# Altium integrated library Passive.IntLib: 1327 symbols (part 5 of 10)
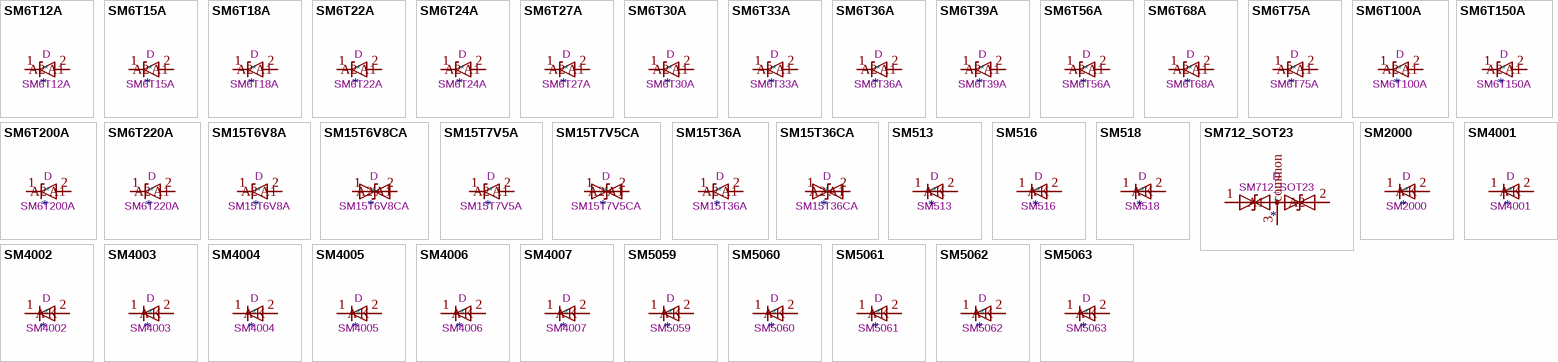
[diagram p45: symbols SM6T12A to SM5063]

## SM4006
designator *  value SM4006  Reference: D
800V 1A General Purpose Rectifier Diode, MELF; Sim.Pins: 1=K 2=A; ki_fp_filters: D*MELF*; Footprint: Diode_SMD:D_MELF; Datasheet: http://cdn-reichelt.de/documents/datenblatt/A400/SMD1N400%23DIO.pdf; Description_: 800V 1A General Purpose Rectifier Diode, MELF; Sim.Device: D; ki_keywords: diode
pins: 1 K, 2 A

## SM4007
designator *  value SM4007  Reference: D
1000V 1A General Purpose Rectifier Diode, MELF; Sim.Pins: 1=K 2=A; ki_fp_filters: D*MELF*; Footprint: Diode_SMD:D_MELF; Datasheet: http://cdn-reichelt.de/documents/datenblatt/A400/SMD1N400%23DIO.pdf; Description_: 1000V 1A General Purpose Rectifier Diode, MELF; Sim.Device: D; ki_keywords: diode
pins: 1 K, 2 A

## SM5059
designator *  value SM5059  Reference: D
Standard Recovery SMD Rectifier Diodes, IFAV = 2A, IFSM = 50/55A (50/60Hz), trr = 1500ns, VRRM = 200V, DO-213AB (MELF); Sim.Pins: 1=K 2=A; ki_keywords: diode; ki_fp_filters: D*MELF*; Footprint: Diode_SMD:D_MELF; Datasheet: https://diotec.com/request/datasheet/sm5059.pdf; Description_: Standard Recovery SMD Rectifier Diodes, IFAV = 2A, IFSM = 50/55A (50/60Hz), trr = 1500ns, VRRM = 200V, DO-213AB (MELF); Sim.Device: D
pins: 1 K, 2 A

## SM5060
designator *  value SM5060  Reference: D
Standard Recovery SMD Rectifier Diodes, IFAV = 2A, IFSM = 50/55A (50/60Hz), trr = 1500ns, VRRM = 400V, DO-213AB (MELF); Sim.Pins: 1=K 2=A; ki_keywords: diode; ki_fp_filters: D*MELF*; Footprint: Diode_SMD:D_MELF; Datasheet: https://diotec.com/request/datasheet/sm5059.pdf; Description_: Standard Recovery SMD Rectifier Diodes, IFAV = 2A, IFSM = 50/55A (50/60Hz), trr = 1500ns, VRRM = 400V, DO-213AB (MELF); Sim.Device: D
pins: 1 K, 2 A

## SM5061
designator *  value SM5061  Reference: D
Standard Recovery SMD Rectifier Diodes, IFAV = 2A, IFSM = 50/55A (50/60Hz), trr = 1500ns, VRRM = 600V, DO-213AB (MELF); Sim.Pins: 1=K 2=A; ki_keywords: diode; ki_fp_filters: D*MELF*; Footprint: Diode_SMD:D_MELF; Datasheet: https://diotec.com/request/datasheet/sm5059.pdf; Description_: Standard Recovery SMD Rectifier Diodes, IFAV = 2A, IFSM = 50/55A (50/60Hz), trr = 1500ns, VRRM = 600V, DO-213AB (MELF); Sim.Device: D
pins: 1 K, 2 A

## SM5062
designator *  value SM5062  Reference: D
Standard Recovery SMD Rectifier Diodes, IFAV = 2A, IFSM = 50/55A (50/60Hz), trr = 1500ns, VRRM = 800V, DO-213AB (MELF); Sim.Pins: 1=K 2=A; ki_keywords: diode; ki_fp_filters: D*MELF*; Footprint: Diode_SMD:D_MELF; Datasheet: https://diotec.com/request/datasheet/sm5059.pdf; Description_: Standard Recovery SMD Rectifier Diodes, IFAV = 2A, IFSM = 50/55A (50/60Hz), trr = 1500ns, VRRM = 800V, DO-213AB (MELF); Sim.Device: D
pins: 1 K, 2 A

## SM5063
designator *  value SM5063  Reference: D
Standard Recovery SMD Rectifier Diodes, IFAV = 2A, IFSM = 50/55A (50/60Hz), trr = 1500ns, VRRM = 1000V, DO-213AB (MELF); Sim.Pins: 1=K 2=A; ki_keywords: diode; ki_fp_filters: D*MELF*; Footprint: Diode_SMD:D_MELF; Datasheet: https://diotec.com/request/datasheet/sm5059.pdf; Description_: Standard Recovery SMD Rectifier Diodes, IFAV = 2A, IFSM = 50/55A (50/60Hz), trr = 1500ns, VRRM = 1000V, DO-213AB (MELF); Sim.Device: D
pins: 1 K, 2 A

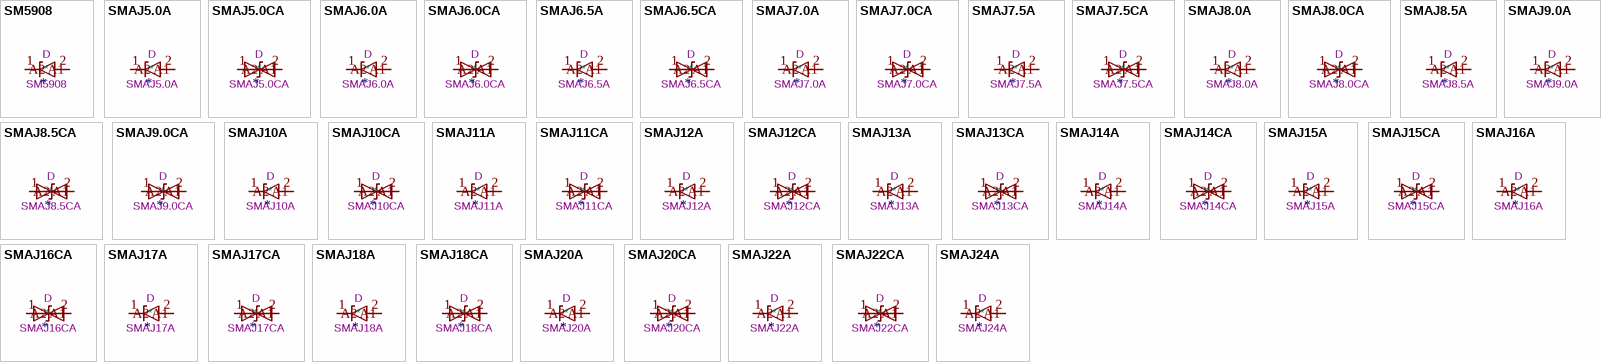
[diagram p15: symbols SM5908 to SMAJ24A]

## SM5908
designator *  value SM5908  Reference: D
1500W (10/1000 μs) Unidirectional TVS Diode, VRM = 5V (IRM = 300 μA at 25°C), VBR = 6V, 'MDC' marking, SMC; ki_keywords: ESD protection transient voltage-suppressor transil thyrector transorb; ki_fp_filters: *D*SMC*; Footprint: Diode_SMD:ST_D_SMC; Datasheet: https://www.st.com/resource/en/datasheet/1n5908.pdf; Description_: 1500W (10/1000 μs) Unidirectional TVS Diode, VRM = 5V (IRM = 300 μA at 25°C), VBR = 6V, 'MDC' marking, SMC
pins: 1 A1, 2 A2

## SMAJ5.0A
designator *  value SMAJ5.0A  Reference: D
400W unidirectional Transient Voltage Suppressor, 5.0Vr, SMA(DO-214AC); ki_keywords: unidirectional diode TVS voltage suppressor; ki_fp_filters: D*SMA*; Footprint: Diode_SMD:D_SMA; Datasheet: https://www.littelfuse.com/media?resourcetype=datasheets&itemid=75e32973-b177-4ee3-a0ff-cedaf1abdb93&filename=smaj-datasheet; Description_: 400W unidirectional Transient Voltage Suppressor, 5.0Vr, SMA(DO-214AC)
pins: 1 A1, 2 A2

## SMAJ5.0CA
designator *  value SMAJ5.0CA  Reference: D
400W bidirectional Transient Voltage Suppressor, 5.0Vr, SMA(DO-214AC); ki_keywords: bidirectional diode TVS voltage suppressor; ki_fp_filters: D*SMA*; Footprint: Diode_SMD:D_SMA; Datasheet: https://www.littelfuse.com/media?resourcetype=datasheets&itemid=75e32973-b177-4ee3-a0ff-cedaf1abdb93&filename=smaj-datasheet; Description_: 400W bidirectional Transient Voltage Suppressor, 5.0Vr, SMA(DO-214AC)
pins: 1 A1, 2 A2

## SMAJ6.0A
designator *  value SMAJ6.0A  Reference: D
400W unidirectional Transient Voltage Suppressor, 6.0Vr, SMA(DO-214AC); ki_keywords: unidirectional diode TVS voltage suppressor; ki_fp_filters: D*SMA*; Footprint: Diode_SMD:D_SMA; Datasheet: https://www.littelfuse.com/media?resourcetype=datasheets&itemid=75e32973-b177-4ee3-a0ff-cedaf1abdb93&filename=smaj-datasheet; Description_: 400W unidirectional Transient Voltage Suppressor, 6.0Vr, SMA(DO-214AC)
pins: 1 A1, 2 A2

## SMAJ6.0CA
designator *  value SMAJ6.0CA  Reference: D
400W bidirectional Transient Voltage Suppressor, 6.0Vr, SMA(DO-214AC); ki_keywords: bidirectional diode TVS voltage suppressor; ki_fp_filters: D*SMA*; Footprint: Diode_SMD:D_SMA; Datasheet: https://www.littelfuse.com/media?resourcetype=datasheets&itemid=75e32973-b177-4ee3-a0ff-cedaf1abdb93&filename=smaj-datasheet; Description_: 400W bidirectional Transient Voltage Suppressor, 6.0Vr, SMA(DO-214AC)
pins: 1 A1, 2 A2

## SMAJ6.5A
designator *  value SMAJ6.5A  Reference: D
400W unidirectional Transient Voltage Suppressor, 6.5Vr, SMA(DO-214AC); ki_keywords: unidirectional diode TVS voltage suppressor; ki_fp_filters: D*SMA*; Footprint: Diode_SMD:D_SMA; Datasheet: https://www.littelfuse.com/media?resourcetype=datasheets&itemid=75e32973-b177-4ee3-a0ff-cedaf1abdb93&filename=smaj-datasheet; Description_: 400W unidirectional Transient Voltage Suppressor, 6.5Vr, SMA(DO-214AC)
pins: 1 A1, 2 A2

## SMAJ6.5CA
designator *  value SMAJ6.5CA  Reference: D
400W bidirectional Transient Voltage Suppressor, 6.5Vr, SMA(DO-214AC); ki_keywords: bidirectional diode TVS voltage suppressor; ki_fp_filters: D*SMA*; Footprint: Diode_SMD:D_SMA; Datasheet: https://www.littelfuse.com/media?resourcetype=datasheets&itemid=75e32973-b177-4ee3-a0ff-cedaf1abdb93&filename=smaj-datasheet; Description_: 400W bidirectional Transient Voltage Suppressor, 6.5Vr, SMA(DO-214AC)
pins: 1 A1, 2 A2

## SMAJ7.0A
designator *  value SMAJ7.0A  Reference: D
400W unidirectional Transient Voltage Suppressor, 7.0Vr, SMA(DO-214AC); ki_keywords: unidirectional diode TVS voltage suppressor; ki_fp_filters: D*SMA*; Footprint: Diode_SMD:D_SMA; Datasheet: https://www.littelfuse.com/media?resourcetype=datasheets&itemid=75e32973-b177-4ee3-a0ff-cedaf1abdb93&filename=smaj-datasheet; Description_: 400W unidirectional Transient Voltage Suppressor, 7.0Vr, SMA(DO-214AC)
pins: 1 A1, 2 A2

## SMAJ7.0CA
designator *  value SMAJ7.0CA  Reference: D
400W bidirectional Transient Voltage Suppressor, 7.0Vr, SMA(DO-214AC); ki_keywords: bidirectional diode TVS voltage suppressor; ki_fp_filters: D*SMA*; Footprint: Diode_SMD:D_SMA; Datasheet: https://www.littelfuse.com/media?resourcetype=datasheets&itemid=75e32973-b177-4ee3-a0ff-cedaf1abdb93&filename=smaj-datasheet; Description_: 400W bidirectional Transient Voltage Suppressor, 7.0Vr, SMA(DO-214AC)
pins: 1 A1, 2 A2

## SMAJ7.5A
designator *  value SMAJ7.5A  Reference: D
400W unidirectional Transient Voltage Suppressor, 7.5Vr, SMA(DO-214AC); ki_keywords: unidirectional diode TVS voltage suppressor; ki_fp_filters: D*SMA*; Footprint: Diode_SMD:D_SMA; Datasheet: https://www.littelfuse.com/media?resourcetype=datasheets&itemid=75e32973-b177-4ee3-a0ff-cedaf1abdb93&filename=smaj-datasheet; Description_: 400W unidirectional Transient Voltage Suppressor, 7.5Vr, SMA(DO-214AC)
pins: 1 A1, 2 A2

## SMAJ7.5CA
designator *  value SMAJ7.5CA  Reference: D
400W bidirectional Transient Voltage Suppressor, 7.5Vr, SMA(DO-214AC); ki_keywords: bidirectional diode TVS voltage suppressor; ki_fp_filters: D*SMA*; Footprint: Diode_SMD:D_SMA; Datasheet: https://www.littelfuse.com/media?resourcetype=datasheets&itemid=75e32973-b177-4ee3-a0ff-cedaf1abdb93&filename=smaj-datasheet; Description_: 400W bidirectional Transient Voltage Suppressor, 7.5Vr, SMA(DO-214AC)
pins: 1 A1, 2 A2

## SMAJ8.0A
designator *  value SMAJ8.0A  Reference: D
400W unidirectional Transient Voltage Suppressor, 8.0Vr, SMA(DO-214AC); ki_keywords: unidirectional diode TVS voltage suppressor; ki_fp_filters: D*SMA*; Footprint: Diode_SMD:D_SMA; Datasheet: https://www.littelfuse.com/media?resourcetype=datasheets&itemid=75e32973-b177-4ee3-a0ff-cedaf1abdb93&filename=smaj-datasheet; Description_: 400W unidirectional Transient Voltage Suppressor, 8.0Vr, SMA(DO-214AC)
pins: 1 A1, 2 A2

## SMAJ8.0CA
designator *  value SMAJ8.0CA  Reference: D
400W bidirectional Transient Voltage Suppressor, 8.0Vr, SMA(DO-214AC); ki_keywords: bidirectional diode TVS voltage suppressor; ki_fp_filters: D*SMA*; Footprint: Diode_SMD:D_SMA; Datasheet: https://www.littelfuse.com/media?resourcetype=datasheets&itemid=75e32973-b177-4ee3-a0ff-cedaf1abdb93&filename=smaj-datasheet; Description_: 400W bidirectional Transient Voltage Suppressor, 8.0Vr, SMA(DO-214AC)
pins: 1 A1, 2 A2

## SMAJ8.5A
designator *  value SMAJ8.5A  Reference: D
400W unidirectional Transient Voltage Suppressor, 8.5Vr, SMA(DO-214AC); ki_keywords: unidirectional diode TVS voltage suppressor; ki_fp_filters: D*SMA*; Footprint: Diode_SMD:D_SMA; Datasheet: https://www.littelfuse.com/media?resourcetype=datasheets&itemid=75e32973-b177-4ee3-a0ff-cedaf1abdb93&filename=smaj-datasheet; Description_: 400W unidirectional Transient Voltage Suppressor, 8.5Vr, SMA(DO-214AC)
pins: 1 A1, 2 A2

## SMAJ8.5CA
designator *  value SMAJ8.5CA  Reference: D
400W bidirectional Transient Voltage Suppressor, 8.5Vr, SMA(DO-214AC); ki_keywords: bidirectional diode TVS voltage suppressor; ki_fp_filters: D*SMA*; Footprint: Diode_SMD:D_SMA; Datasheet: https://www.littelfuse.com/media?resourcetype=datasheets&itemid=75e32973-b177-4ee3-a0ff-cedaf1abdb93&filename=smaj-datasheet; Description_: 400W bidirectional Transient Voltage Suppressor, 8.5Vr, SMA(DO-214AC)
pins: 1 A1, 2 A2

## SMAJ9.0A
designator *  value SMAJ9.0A  Reference: D
400W unidirectional Transient Voltage Suppressor, 9.0Vr, SMA(DO-214AC); ki_keywords: unidirectional diode TVS voltage suppressor; ki_fp_filters: D*SMA*; Footprint: Diode_SMD:D_SMA; Datasheet: https://www.littelfuse.com/media?resourcetype=datasheets&itemid=75e32973-b177-4ee3-a0ff-cedaf1abdb93&filename=smaj-datasheet; Description_: 400W unidirectional Transient Voltage Suppressor, 9.0Vr, SMA(DO-214AC)
pins: 1 A1, 2 A2

## SMAJ9.0CA
designator *  value SMAJ9.0CA  Reference: D
400W bidirectional Transient Voltage Suppressor, 9.0Vr, SMA(DO-214AC); ki_keywords: bidirectional diode TVS voltage suppressor; ki_fp_filters: D*SMA*; Footprint: Diode_SMD:D_SMA; Datasheet: https://www.littelfuse.com/media?resourcetype=datasheets&itemid=75e32973-b177-4ee3-a0ff-cedaf1abdb93&filename=smaj-datasheet; Description_: 400W bidirectional Transient Voltage Suppressor, 9.0Vr, SMA(DO-214AC)
pins: 1 A1, 2 A2

## SMAJ10A
designator *  value SMAJ10A  Reference: D
400W unidirectional Transient Voltage Suppressor, 10.0Vr, SMA(DO-214AC); ki_keywords: unidirectional diode TVS voltage suppressor; ki_fp_filters: D*SMA*; Footprint: Diode_SMD:D_SMA; Datasheet: https://www.littelfuse.com/media?resourcetype=datasheets&itemid=75e32973-b177-4ee3-a0ff-cedaf1abdb93&filename=smaj-datasheet; Description_: 400W unidirectional Transient Voltage Suppressor, 10.0Vr, SMA(DO-214AC)
pins: 1 A1, 2 A2

## SMAJ10CA
designator *  value SMAJ10CA  Reference: D
400W bidirectional Transient Voltage Suppressor, 10.0Vr, SMA(DO-214AC); ki_keywords: bidirectional diode TVS voltage suppressor; ki_fp_filters: D*SMA*; Footprint: Diode_SMD:D_SMA; Datasheet: https://www.littelfuse.com/media?resourcetype=datasheets&itemid=75e32973-b177-4ee3-a0ff-cedaf1abdb93&filename=smaj-datasheet; Description_: 400W bidirectional Transient Voltage Suppressor, 10.0Vr, SMA(DO-214AC)
pins: 1 A1, 2 A2

## SMAJ11A
designator *  value SMAJ11A  Reference: D
400W unidirectional Transient Voltage Suppressor, 11.0Vr, SMA(DO-214AC); ki_keywords: unidirectional diode TVS voltage suppressor; ki_fp_filters: D*SMA*; Footprint: Diode_SMD:D_SMA; Datasheet: https://www.littelfuse.com/media?resourcetype=datasheets&itemid=75e32973-b177-4ee3-a0ff-cedaf1abdb93&filename=smaj-datasheet; Description_: 400W unidirectional Transient Voltage Suppressor, 11.0Vr, SMA(DO-214AC)
pins: 1 A1, 2 A2

## SMAJ11CA
designator *  value SMAJ11CA  Reference: D
400W bidirectional Transient Voltage Suppressor, 11.0Vr, SMA(DO-214AC); ki_keywords: bidirectional diode TVS voltage suppressor; ki_fp_filters: D*SMA*; Footprint: Diode_SMD:D_SMA; Datasheet: https://www.littelfuse.com/media?resourcetype=datasheets&itemid=75e32973-b177-4ee3-a0ff-cedaf1abdb93&filename=smaj-datasheet; Description_: 400W bidirectional Transient Voltage Suppressor, 11.0Vr, SMA(DO-214AC)
pins: 1 A1, 2 A2

## SMAJ12A
designator *  value SMAJ12A  Reference: D
400W unidirectional Transient Voltage Suppressor, 12.0Vr, SMA(DO-214AC); ki_keywords: unidirectional diode TVS voltage suppressor; ki_fp_filters: D*SMA*; Footprint: Diode_SMD:D_SMA; Datasheet: https://www.littelfuse.com/media?resourcetype=datasheets&itemid=75e32973-b177-4ee3-a0ff-cedaf1abdb93&filename=smaj-datasheet; Description_: 400W unidirectional Transient Voltage Suppressor, 12.0Vr, SMA(DO-214AC)
pins: 1 A1, 2 A2

## SMAJ12CA
designator *  value SMAJ12CA  Reference: D
400W bidirectional Transient Voltage Suppressor, 12.0Vr, SMA(DO-214AC); ki_keywords: bidirectional diode TVS voltage suppressor; ki_fp_filters: D*SMA*; Footprint: Diode_SMD:D_SMA; Datasheet: https://www.littelfuse.com/media?resourcetype=datasheets&itemid=75e32973-b177-4ee3-a0ff-cedaf1abdb93&filename=smaj-datasheet; Description_: 400W bidirectional Transient Voltage Suppressor, 12.0Vr, SMA(DO-214AC)
pins: 1 A1, 2 A2

## SMAJ13A
designator *  value SMAJ13A  Reference: D
400W unidirectional Transient Voltage Suppressor, 13.0Vr, SMA(DO-214AC); ki_keywords: unidirectional diode TVS voltage suppressor; ki_fp_filters: D*SMA*; Footprint: Diode_SMD:D_SMA; Datasheet: https://www.littelfuse.com/media?resourcetype=datasheets&itemid=75e32973-b177-4ee3-a0ff-cedaf1abdb93&filename=smaj-datasheet; Description_: 400W unidirectional Transient Voltage Suppressor, 13.0Vr, SMA(DO-214AC)
pins: 1 A1, 2 A2

## SMAJ13CA
designator *  value SMAJ13CA  Reference: D
400W bidirectional Transient Voltage Suppressor, 13.0Vr, SMA(DO-214AC); ki_keywords: bidirectional diode TVS voltage suppressor; ki_fp_filters: D*SMA*; Footprint: Diode_SMD:D_SMA; Datasheet: https://www.littelfuse.com/media?resourcetype=datasheets&itemid=75e32973-b177-4ee3-a0ff-cedaf1abdb93&filename=smaj-datasheet; Description_: 400W bidirectional Transient Voltage Suppressor, 13.0Vr, SMA(DO-214AC)
pins: 1 A1, 2 A2

## SMAJ14A
designator *  value SMAJ14A  Reference: D
400W unidirectional Transient Voltage Suppressor, 14.0Vr, SMA(DO-214AC); ki_keywords: unidirectional diode TVS voltage suppressor; ki_fp_filters: D*SMA*; Footprint: Diode_SMD:D_SMA; Datasheet: https://www.littelfuse.com/media?resourcetype=datasheets&itemid=75e32973-b177-4ee3-a0ff-cedaf1abdb93&filename=smaj-datasheet; Description_: 400W unidirectional Transient Voltage Suppressor, 14.0Vr, SMA(DO-214AC)
pins: 1 A1, 2 A2

## SMAJ14CA
designator *  value SMAJ14CA  Reference: D
400W bidirectional Transient Voltage Suppressor, 14.0Vr, SMA(DO-214AC); ki_keywords: bidirectional diode TVS voltage suppressor; ki_fp_filters: D*SMA*; Footprint: Diode_SMD:D_SMA; Datasheet: https://www.littelfuse.com/media?resourcetype=datasheets&itemid=75e32973-b177-4ee3-a0ff-cedaf1abdb93&filename=smaj-datasheet; Description_: 400W bidirectional Transient Voltage Suppressor, 14.0Vr, SMA(DO-214AC)
pins: 1 A1, 2 A2

## SMAJ15A
designator *  value SMAJ15A  Reference: D
400W unidirectional Transient Voltage Suppressor, 15.0Vr, SMA(DO-214AC); ki_keywords: unidirectional diode TVS voltage suppressor; ki_fp_filters: D*SMA*; Footprint: Diode_SMD:D_SMA; Datasheet: https://www.littelfuse.com/media?resourcetype=datasheets&itemid=75e32973-b177-4ee3-a0ff-cedaf1abdb93&filename=smaj-datasheet; Description_: 400W unidirectional Transient Voltage Suppressor, 15.0Vr, SMA(DO-214AC)
pins: 1 A1, 2 A2

## SMAJ15CA
designator *  value SMAJ15CA  Reference: D
400W bidirectional Transient Voltage Suppressor, 15.0Vr, SMA(DO-214AC); ki_keywords: bidirectional diode TVS voltage suppressor; ki_fp_filters: D*SMA*; Footprint: Diode_SMD:D_SMA; Datasheet: https://www.littelfuse.com/media?resourcetype=datasheets&itemid=75e32973-b177-4ee3-a0ff-cedaf1abdb93&filename=smaj-datasheet; Description_: 400W bidirectional Transient Voltage Suppressor, 15.0Vr, SMA(DO-214AC)
pins: 1 A1, 2 A2

## SMAJ16A
designator *  value SMAJ16A  Reference: D
400W unidirectional Transient Voltage Suppressor, 16.0Vr, SMA(DO-214AC); ki_keywords: unidirectional diode TVS voltage suppressor; ki_fp_filters: D*SMA*; Footprint: Diode_SMD:D_SMA; Datasheet: https://www.littelfuse.com/media?resourcetype=datasheets&itemid=75e32973-b177-4ee3-a0ff-cedaf1abdb93&filename=smaj-datasheet; Description_: 400W unidirectional Transient Voltage Suppressor, 16.0Vr, SMA(DO-214AC)
pins: 1 A1, 2 A2

## SMAJ16CA
designator *  value SMAJ16CA  Reference: D
400W bidirectional Transient Voltage Suppressor, 16.0Vr, SMA(DO-214AC); ki_keywords: bidirectional diode TVS voltage suppressor; ki_fp_filters: D*SMA*; Footprint: Diode_SMD:D_SMA; Datasheet: https://www.littelfuse.com/media?resourcetype=datasheets&itemid=75e32973-b177-4ee3-a0ff-cedaf1abdb93&filename=smaj-datasheet; Description_: 400W bidirectional Transient Voltage Suppressor, 16.0Vr, SMA(DO-214AC)
pins: 1 A1, 2 A2

## SMAJ17A
designator *  value SMAJ17A  Reference: D
400W unidirectional Transient Voltage Suppressor, 17.0Vr, SMA(DO-214AC); ki_keywords: unidirectional diode TVS voltage suppressor; ki_fp_filters: D*SMA*; Footprint: Diode_SMD:D_SMA; Datasheet: https://www.littelfuse.com/media?resourcetype=datasheets&itemid=75e32973-b177-4ee3-a0ff-cedaf1abdb93&filename=smaj-datasheet; Description_: 400W unidirectional Transient Voltage Suppressor, 17.0Vr, SMA(DO-214AC)
pins: 1 A1, 2 A2

## SMAJ17CA
designator *  value SMAJ17CA  Reference: D
400W bidirectional Transient Voltage Suppressor, 17.0Vr, SMA(DO-214AC); ki_keywords: bidirectional diode TVS voltage suppressor; ki_fp_filters: D*SMA*; Footprint: Diode_SMD:D_SMA; Datasheet: https://www.littelfuse.com/media?resourcetype=datasheets&itemid=75e32973-b177-4ee3-a0ff-cedaf1abdb93&filename=smaj-datasheet; Description_: 400W bidirectional Transient Voltage Suppressor, 17.0Vr, SMA(DO-214AC)
pins: 1 A1, 2 A2

## SMAJ18A
designator *  value SMAJ18A  Reference: D
400W unidirectional Transient Voltage Suppressor, 18.0Vr, SMA(DO-214AC); ki_keywords: unidirectional diode TVS voltage suppressor; ki_fp_filters: D*SMA*; Footprint: Diode_SMD:D_SMA; Datasheet: https://www.littelfuse.com/media?resourcetype=datasheets&itemid=75e32973-b177-4ee3-a0ff-cedaf1abdb93&filename=smaj-datasheet; Description_: 400W unidirectional Transient Voltage Suppressor, 18.0Vr, SMA(DO-214AC)
pins: 1 A1, 2 A2

## SMAJ18CA
designator *  value SMAJ18CA  Reference: D
400W bidirectional Transient Voltage Suppressor, 18.0Vr, SMA(DO-214AC); ki_keywords: bidirectional diode TVS voltage suppressor; ki_fp_filters: D*SMA*; Footprint: Diode_SMD:D_SMA; Datasheet: https://www.littelfuse.com/media?resourcetype=datasheets&itemid=75e32973-b177-4ee3-a0ff-cedaf1abdb93&filename=smaj-datasheet; Description_: 400W bidirectional Transient Voltage Suppressor, 18.0Vr, SMA(DO-214AC)
pins: 1 A1, 2 A2

## SMAJ20A
designator *  value SMAJ20A  Reference: D
400W unidirectional Transient Voltage Suppressor, 20.0Vr, SMA(DO-214AC); ki_keywords: unidirectional diode TVS voltage suppressor; ki_fp_filters: D*SMA*; Footprint: Diode_SMD:D_SMA; Datasheet: https://www.littelfuse.com/media?resourcetype=datasheets&itemid=75e32973-b177-4ee3-a0ff-cedaf1abdb93&filename=smaj-datasheet; Description_: 400W unidirectional Transient Voltage Suppressor, 20.0Vr, SMA(DO-214AC)
pins: 1 A1, 2 A2

## SMAJ20CA
designator *  value SMAJ20CA  Reference: D
400W bidirectional Transient Voltage Suppressor, 20.0Vr, SMA(DO-214AC); ki_keywords: bidirectional diode TVS voltage suppressor; ki_fp_filters: D*SMA*; Footprint: Diode_SMD:D_SMA; Datasheet: https://www.littelfuse.com/media?resourcetype=datasheets&itemid=75e32973-b177-4ee3-a0ff-cedaf1abdb93&filename=smaj-datasheet; Description_: 400W bidirectional Transient Voltage Suppressor, 20.0Vr, SMA(DO-214AC)
pins: 1 A1, 2 A2

## SMAJ22A
designator *  value SMAJ22A  Reference: D
400W unidirectional Transient Voltage Suppressor, 22.0Vr, SMA(DO-214AC); ki_keywords: unidirectional diode TVS voltage suppressor; ki_fp_filters: D*SMA*; Footprint: Diode_SMD:D_SMA; Datasheet: https://www.littelfuse.com/media?resourcetype=datasheets&itemid=75e32973-b177-4ee3-a0ff-cedaf1abdb93&filename=smaj-datasheet; Description_: 400W unidirectional Transient Voltage Suppressor, 22.0Vr, SMA(DO-214AC)
pins: 1 A1, 2 A2

## SMAJ22CA
designator *  value SMAJ22CA  Reference: D
400W bidirectional Transient Voltage Suppressor, 22.0Vr, SMA(DO-214AC); ki_keywords: bidirectional diode TVS voltage suppressor; ki_fp_filters: D*SMA*; Footprint: Diode_SMD:D_SMA; Datasheet: https://www.littelfuse.com/media?resourcetype=datasheets&itemid=75e32973-b177-4ee3-a0ff-cedaf1abdb93&filename=smaj-datasheet; Description_: 400W bidirectional Transient Voltage Suppressor, 22.0Vr, SMA(DO-214AC)
pins: 1 A1, 2 A2

## SMAJ24A
designator *  value SMAJ24A  Reference: D
400W unidirectional Transient Voltage Suppressor, 24.0Vr, SMA(DO-214AC); ki_keywords: unidirectional diode TVS voltage suppressor; ki_fp_filters: D*SMA*; Footprint: Diode_SMD:D_SMA; Datasheet: https://www.littelfuse.com/media?resourcetype=datasheets&itemid=75e32973-b177-4ee3-a0ff-cedaf1abdb93&filename=smaj-datasheet; Description_: 400W unidirectional Transient Voltage Suppressor, 24.0Vr, SMA(DO-214AC)
pins: 1 A1, 2 A2

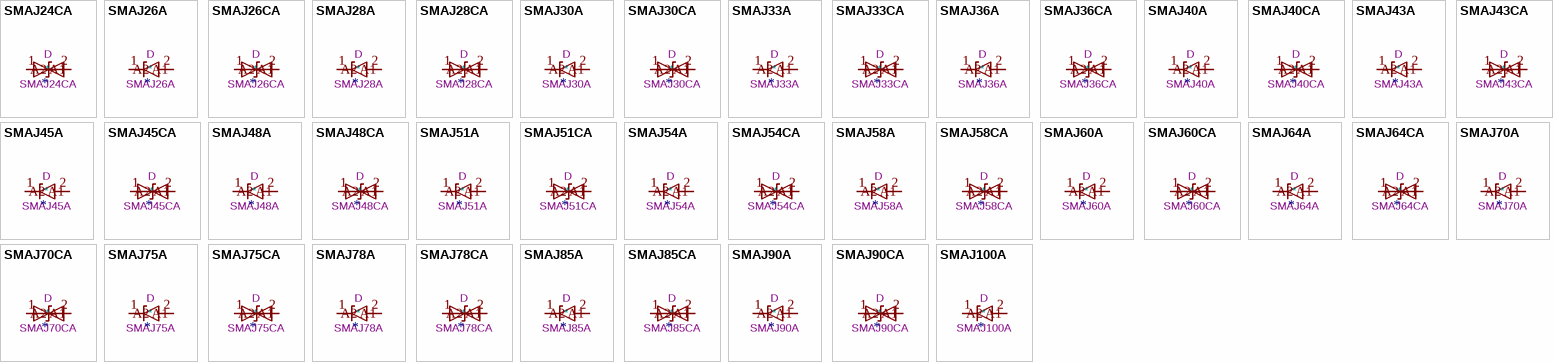
[diagram p16: symbols SMAJ24CA to SMAJ100A]

## SMAJ24CA
designator *  value SMAJ24CA  Reference: D
400W bidirectional Transient Voltage Suppressor, 24.0Vr, SMA(DO-214AC); ki_keywords: bidirectional diode TVS voltage suppressor; ki_fp_filters: D*SMA*; Footprint: Diode_SMD:D_SMA; Datasheet: https://www.littelfuse.com/media?resourcetype=datasheets&itemid=75e32973-b177-4ee3-a0ff-cedaf1abdb93&filename=smaj-datasheet; Description_: 400W bidirectional Transient Voltage Suppressor, 24.0Vr, SMA(DO-214AC)
pins: 1 A1, 2 A2

## SMAJ26A
designator *  value SMAJ26A  Reference: D
400W unidirectional Transient Voltage Suppressor, 26.0Vr, SMA(DO-214AC); ki_keywords: unidirectional diode TVS voltage suppressor; ki_fp_filters: D*SMA*; Footprint: Diode_SMD:D_SMA; Datasheet: https://www.littelfuse.com/media?resourcetype=datasheets&itemid=75e32973-b177-4ee3-a0ff-cedaf1abdb93&filename=smaj-datasheet; Description_: 400W unidirectional Transient Voltage Suppressor, 26.0Vr, SMA(DO-214AC)
pins: 1 A1, 2 A2

## SMAJ26CA
designator *  value SMAJ26CA  Reference: D
400W bidirectional Transient Voltage Suppressor, 26.0Vr, SMA(DO-214AC); ki_keywords: bidirectional diode TVS voltage suppressor; ki_fp_filters: D*SMA*; Footprint: Diode_SMD:D_SMA; Datasheet: https://www.littelfuse.com/media?resourcetype=datasheets&itemid=75e32973-b177-4ee3-a0ff-cedaf1abdb93&filename=smaj-datasheet; Description_: 400W bidirectional Transient Voltage Suppressor, 26.0Vr, SMA(DO-214AC)
pins: 1 A1, 2 A2

## SMAJ28A
designator *  value SMAJ28A  Reference: D
400W unidirectional Transient Voltage Suppressor, 28.0Vr, SMA(DO-214AC); ki_keywords: unidirectional diode TVS voltage suppressor; ki_fp_filters: D*SMA*; Footprint: Diode_SMD:D_SMA; Datasheet: https://www.littelfuse.com/media?resourcetype=datasheets&itemid=75e32973-b177-4ee3-a0ff-cedaf1abdb93&filename=smaj-datasheet; Description_: 400W unidirectional Transient Voltage Suppressor, 28.0Vr, SMA(DO-214AC)
pins: 1 A1, 2 A2

## SMAJ28CA
designator *  value SMAJ28CA  Reference: D
400W bidirectional Transient Voltage Suppressor, 28.0Vr, SMA(DO-214AC); ki_keywords: bidirectional diode TVS voltage suppressor; ki_fp_filters: D*SMA*; Footprint: Diode_SMD:D_SMA; Datasheet: https://www.littelfuse.com/media?resourcetype=datasheets&itemid=75e32973-b177-4ee3-a0ff-cedaf1abdb93&filename=smaj-datasheet; Description_: 400W bidirectional Transient Voltage Suppressor, 28.0Vr, SMA(DO-214AC)
pins: 1 A1, 2 A2

## SMAJ30A
designator *  value SMAJ30A  Reference: D
400W unidirectional Transient Voltage Suppressor, 30.0Vr, SMA(DO-214AC); ki_keywords: unidirectional diode TVS voltage suppressor; ki_fp_filters: D*SMA*; Footprint: Diode_SMD:D_SMA; Datasheet: https://www.littelfuse.com/media?resourcetype=datasheets&itemid=75e32973-b177-4ee3-a0ff-cedaf1abdb93&filename=smaj-datasheet; Description_: 400W unidirectional Transient Voltage Suppressor, 30.0Vr, SMA(DO-214AC)
pins: 1 A1, 2 A2

## SMAJ30CA
designator *  value SMAJ30CA  Reference: D
400W bidirectional Transient Voltage Suppressor, 30.0Vr, SMA(DO-214AC); ki_keywords: bidirectional diode TVS voltage suppressor; ki_fp_filters: D*SMA*; Footprint: Diode_SMD:D_SMA; Datasheet: https://www.littelfuse.com/media?resourcetype=datasheets&itemid=75e32973-b177-4ee3-a0ff-cedaf1abdb93&filename=smaj-datasheet; Description_: 400W bidirectional Transient Voltage Suppressor, 30.0Vr, SMA(DO-214AC)
pins: 1 A1, 2 A2

## SMAJ33A
designator *  value SMAJ33A  Reference: D
400W unidirectional Transient Voltage Suppressor, 33.0Vr, SMA(DO-214AC); ki_keywords: unidirectional diode TVS voltage suppressor; ki_fp_filters: D*SMA*; Footprint: Diode_SMD:D_SMA; Datasheet: https://www.littelfuse.com/media?resourcetype=datasheets&itemid=75e32973-b177-4ee3-a0ff-cedaf1abdb93&filename=smaj-datasheet; Description_: 400W unidirectional Transient Voltage Suppressor, 33.0Vr, SMA(DO-214AC)
pins: 1 A1, 2 A2

## SMAJ33CA
designator *  value SMAJ33CA  Reference: D
400W bidirectional Transient Voltage Suppressor, 33.0Vr, SMA(DO-214AC); ki_keywords: bidirectional diode TVS voltage suppressor; ki_fp_filters: D*SMA*; Footprint: Diode_SMD:D_SMA; Datasheet: https://www.littelfuse.com/media?resourcetype=datasheets&itemid=75e32973-b177-4ee3-a0ff-cedaf1abdb93&filename=smaj-datasheet; Description_: 400W bidirectional Transient Voltage Suppressor, 33.0Vr, SMA(DO-214AC)
pins: 1 A1, 2 A2

## SMAJ36A
designator *  value SMAJ36A  Reference: D
400W unidirectional Transient Voltage Suppressor, 36.0Vr, SMA(DO-214AC); ki_keywords: unidirectional diode TVS voltage suppressor; ki_fp_filters: D*SMA*; Footprint: Diode_SMD:D_SMA; Datasheet: https://www.littelfuse.com/media?resourcetype=datasheets&itemid=75e32973-b177-4ee3-a0ff-cedaf1abdb93&filename=smaj-datasheet; Description_: 400W unidirectional Transient Voltage Suppressor, 36.0Vr, SMA(DO-214AC)
pins: 1 A1, 2 A2

## SMAJ36CA
designator *  value SMAJ36CA  Reference: D
400W bidirectional Transient Voltage Suppressor, 36.0Vr, SMA(DO-214AC); ki_keywords: bidirectional diode TVS voltage suppressor; ki_fp_filters: D*SMA*; Footprint: Diode_SMD:D_SMA; Datasheet: https://www.littelfuse.com/media?resourcetype=datasheets&itemid=75e32973-b177-4ee3-a0ff-cedaf1abdb93&filename=smaj-datasheet; Description_: 400W bidirectional Transient Voltage Suppressor, 36.0Vr, SMA(DO-214AC)
pins: 1 A1, 2 A2

## SMAJ40A
designator *  value SMAJ40A  Reference: D
400W unidirectional Transient Voltage Suppressor, 40.0Vr, SMA(DO-214AC); ki_keywords: unidirectional diode TVS voltage suppressor; ki_fp_filters: D*SMA*; Footprint: Diode_SMD:D_SMA; Datasheet: https://www.littelfuse.com/media?resourcetype=datasheets&itemid=75e32973-b177-4ee3-a0ff-cedaf1abdb93&filename=smaj-datasheet; Description_: 400W unidirectional Transient Voltage Suppressor, 40.0Vr, SMA(DO-214AC)
pins: 1 A1, 2 A2

## SMAJ40CA
designator *  value SMAJ40CA  Reference: D
400W bidirectional Transient Voltage Suppressor, 40.0Vr, SMA(DO-214AC); ki_keywords: bidirectional diode TVS voltage suppressor; ki_fp_filters: D*SMA*; Footprint: Diode_SMD:D_SMA; Datasheet: https://www.littelfuse.com/media?resourcetype=datasheets&itemid=75e32973-b177-4ee3-a0ff-cedaf1abdb93&filename=smaj-datasheet; Description_: 400W bidirectional Transient Voltage Suppressor, 40.0Vr, SMA(DO-214AC)
pins: 1 A1, 2 A2

## SMAJ43A
designator *  value SMAJ43A  Reference: D
400W unidirectional Transient Voltage Suppressor, 43.0Vr, SMA(DO-214AC); ki_keywords: unidirectional diode TVS voltage suppressor; ki_fp_filters: D*SMA*; Footprint: Diode_SMD:D_SMA; Datasheet: https://www.littelfuse.com/media?resourcetype=datasheets&itemid=75e32973-b177-4ee3-a0ff-cedaf1abdb93&filename=smaj-datasheet; Description_: 400W unidirectional Transient Voltage Suppressor, 43.0Vr, SMA(DO-214AC)
pins: 1 A1, 2 A2

## SMAJ43CA
designator *  value SMAJ43CA  Reference: D
400W bidirectional Transient Voltage Suppressor, 43.0Vr, SMA(DO-214AC); ki_keywords: bidirectional diode TVS voltage suppressor; ki_fp_filters: D*SMA*; Footprint: Diode_SMD:D_SMA; Datasheet: https://www.littelfuse.com/media?resourcetype=datasheets&itemid=75e32973-b177-4ee3-a0ff-cedaf1abdb93&filename=smaj-datasheet; Description_: 400W bidirectional Transient Voltage Suppressor, 43.0Vr, SMA(DO-214AC)
pins: 1 A1, 2 A2

## SMAJ45A
designator *  value SMAJ45A  Reference: D
400W unidirectional Transient Voltage Suppressor, 45.0Vr, SMA(DO-214AC); ki_keywords: unidirectional diode TVS voltage suppressor; ki_fp_filters: D*SMA*; Footprint: Diode_SMD:D_SMA; Datasheet: https://www.littelfuse.com/media?resourcetype=datasheets&itemid=75e32973-b177-4ee3-a0ff-cedaf1abdb93&filename=smaj-datasheet; Description_: 400W unidirectional Transient Voltage Suppressor, 45.0Vr, SMA(DO-214AC)
pins: 1 A1, 2 A2

## SMAJ45CA
designator *  value SMAJ45CA  Reference: D
400W bidirectional Transient Voltage Suppressor, 45.0Vr, SMA(DO-214AC); ki_keywords: bidirectional diode TVS voltage suppressor; ki_fp_filters: D*SMA*; Footprint: Diode_SMD:D_SMA; Datasheet: https://www.littelfuse.com/media?resourcetype=datasheets&itemid=75e32973-b177-4ee3-a0ff-cedaf1abdb93&filename=smaj-datasheet; Description_: 400W bidirectional Transient Voltage Suppressor, 45.0Vr, SMA(DO-214AC)
pins: 1 A1, 2 A2

## SMAJ48A
designator *  value SMAJ48A  Reference: D
400W unidirectional Transient Voltage Suppressor, 48.0Vr, SMA(DO-214AC); ki_keywords: unidirectional diode TVS voltage suppressor; ki_fp_filters: D*SMA*; Footprint: Diode_SMD:D_SMA; Datasheet: https://www.littelfuse.com/media?resourcetype=datasheets&itemid=75e32973-b177-4ee3-a0ff-cedaf1abdb93&filename=smaj-datasheet; Description_: 400W unidirectional Transient Voltage Suppressor, 48.0Vr, SMA(DO-214AC)
pins: 1 A1, 2 A2

## SMAJ48CA
designator *  value SMAJ48CA  Reference: D
400W bidirectional Transient Voltage Suppressor, 48.0Vr, SMA(DO-214AC); ki_keywords: bidirectional diode TVS voltage suppressor; ki_fp_filters: D*SMA*; Footprint: Diode_SMD:D_SMA; Datasheet: https://www.littelfuse.com/media?resourcetype=datasheets&itemid=75e32973-b177-4ee3-a0ff-cedaf1abdb93&filename=smaj-datasheet; Description_: 400W bidirectional Transient Voltage Suppressor, 48.0Vr, SMA(DO-214AC)
pins: 1 A1, 2 A2

## SMAJ51A
designator *  value SMAJ51A  Reference: D
400W unidirectional Transient Voltage Suppressor, 51.0Vr, SMA(DO-214AC); ki_keywords: unidirectional diode TVS voltage suppressor; ki_fp_filters: D*SMA*; Footprint: Diode_SMD:D_SMA; Datasheet: https://www.littelfuse.com/media?resourcetype=datasheets&itemid=75e32973-b177-4ee3-a0ff-cedaf1abdb93&filename=smaj-datasheet; Description_: 400W unidirectional Transient Voltage Suppressor, 51.0Vr, SMA(DO-214AC)
pins: 1 A1, 2 A2

## SMAJ51CA
designator *  value SMAJ51CA  Reference: D
400W bidirectional Transient Voltage Suppressor, 51.0Vr, SMA(DO-214AC); ki_keywords: bidirectional diode TVS voltage suppressor; ki_fp_filters: D*SMA*; Footprint: Diode_SMD:D_SMA; Datasheet: https://www.littelfuse.com/media?resourcetype=datasheets&itemid=75e32973-b177-4ee3-a0ff-cedaf1abdb93&filename=smaj-datasheet; Description_: 400W bidirectional Transient Voltage Suppressor, 51.0Vr, SMA(DO-214AC)
pins: 1 A1, 2 A2

## SMAJ54A
designator *  value SMAJ54A  Reference: D
400W unidirectional Transient Voltage Suppressor, 54.0Vr, SMA(DO-214AC); ki_keywords: unidirectional diode TVS voltage suppressor; ki_fp_filters: D*SMA*; Footprint: Diode_SMD:D_SMA; Datasheet: https://www.littelfuse.com/media?resourcetype=datasheets&itemid=75e32973-b177-4ee3-a0ff-cedaf1abdb93&filename=smaj-datasheet; Description_: 400W unidirectional Transient Voltage Suppressor, 54.0Vr, SMA(DO-214AC)
pins: 1 A1, 2 A2

## SMAJ54CA
designator *  value SMAJ54CA  Reference: D
400W bidirectional Transient Voltage Suppressor, 54.0Vr, SMA(DO-214AC); ki_keywords: bidirectional diode TVS voltage suppressor; ki_fp_filters: D*SMA*; Footprint: Diode_SMD:D_SMA; Datasheet: https://www.littelfuse.com/media?resourcetype=datasheets&itemid=75e32973-b177-4ee3-a0ff-cedaf1abdb93&filename=smaj-datasheet; Description_: 400W bidirectional Transient Voltage Suppressor, 54.0Vr, SMA(DO-214AC)
pins: 1 A1, 2 A2

## SMAJ58A
designator *  value SMAJ58A  Reference: D
400W unidirectional Transient Voltage Suppressor, 58.0Vr, SMA(DO-214AC); ki_keywords: unidirectional diode TVS voltage suppressor; ki_fp_filters: D*SMA*; Footprint: Diode_SMD:D_SMA; Datasheet: https://www.littelfuse.com/media?resourcetype=datasheets&itemid=75e32973-b177-4ee3-a0ff-cedaf1abdb93&filename=smaj-datasheet; Description_: 400W unidirectional Transient Voltage Suppressor, 58.0Vr, SMA(DO-214AC)
pins: 1 A1, 2 A2

## SMAJ58CA
designator *  value SMAJ58CA  Reference: D
400W bidirectional Transient Voltage Suppressor, 58.0Vr, SMA(DO-214AC); ki_keywords: bidirectional diode TVS voltage suppressor; ki_fp_filters: D*SMA*; Footprint: Diode_SMD:D_SMA; Datasheet: https://www.littelfuse.com/media?resourcetype=datasheets&itemid=75e32973-b177-4ee3-a0ff-cedaf1abdb93&filename=smaj-datasheet; Description_: 400W bidirectional Transient Voltage Suppressor, 58.0Vr, SMA(DO-214AC)
pins: 1 A1, 2 A2

## SMAJ60A
designator *  value SMAJ60A  Reference: D
400W unidirectional Transient Voltage Suppressor, 60.0Vr, SMA(DO-214AC); ki_keywords: unidirectional diode TVS voltage suppressor; ki_fp_filters: D*SMA*; Footprint: Diode_SMD:D_SMA; Datasheet: https://www.littelfuse.com/media?resourcetype=datasheets&itemid=75e32973-b177-4ee3-a0ff-cedaf1abdb93&filename=smaj-datasheet; Description_: 400W unidirectional Transient Voltage Suppressor, 60.0Vr, SMA(DO-214AC)
pins: 1 A1, 2 A2

## SMAJ60CA
designator *  value SMAJ60CA  Reference: D
400W bidirectional Transient Voltage Suppressor, 60.0Vr, SMA(DO-214AC); ki_keywords: bidirectional diode TVS voltage suppressor; ki_fp_filters: D*SMA*; Footprint: Diode_SMD:D_SMA; Datasheet: https://www.littelfuse.com/media?resourcetype=datasheets&itemid=75e32973-b177-4ee3-a0ff-cedaf1abdb93&filename=smaj-datasheet; Description_: 400W bidirectional Transient Voltage Suppressor, 60.0Vr, SMA(DO-214AC)
pins: 1 A1, 2 A2

## SMAJ64A
designator *  value SMAJ64A  Reference: D
400W unidirectional Transient Voltage Suppressor, 64.0Vr, SMA(DO-214AC); ki_keywords: unidirectional diode TVS voltage suppressor; ki_fp_filters: D*SMA*; Footprint: Diode_SMD:D_SMA; Datasheet: https://www.littelfuse.com/media?resourcetype=datasheets&itemid=75e32973-b177-4ee3-a0ff-cedaf1abdb93&filename=smaj-datasheet; Description_: 400W unidirectional Transient Voltage Suppressor, 64.0Vr, SMA(DO-214AC)
pins: 1 A1, 2 A2

## SMAJ64CA
designator *  value SMAJ64CA  Reference: D
400W bidirectional Transient Voltage Suppressor, 64.0Vr, SMA(DO-214AC); ki_keywords: bidirectional diode TVS voltage suppressor; ki_fp_filters: D*SMA*; Footprint: Diode_SMD:D_SMA; Datasheet: https://www.littelfuse.com/media?resourcetype=datasheets&itemid=75e32973-b177-4ee3-a0ff-cedaf1abdb93&filename=smaj-datasheet; Description_: 400W bidirectional Transient Voltage Suppressor, 64.0Vr, SMA(DO-214AC)
pins: 1 A1, 2 A2

## SMAJ70A
designator *  value SMAJ70A  Reference: D
400W unidirectional Transient Voltage Suppressor, 70.0Vr, SMA(DO-214AC); ki_keywords: unidirectional diode TVS voltage suppressor; ki_fp_filters: D*SMA*; Footprint: Diode_SMD:D_SMA; Datasheet: https://www.littelfuse.com/media?resourcetype=datasheets&itemid=75e32973-b177-4ee3-a0ff-cedaf1abdb93&filename=smaj-datasheet; Description_: 400W unidirectional Transient Voltage Suppressor, 70.0Vr, SMA(DO-214AC)
pins: 1 A1, 2 A2

## SMAJ70CA
designator *  value SMAJ70CA  Reference: D
400W bidirectional Transient Voltage Suppressor, 70.0Vr, SMA(DO-214AC); ki_keywords: bidirectional diode TVS voltage suppressor; ki_fp_filters: D*SMA*; Footprint: Diode_SMD:D_SMA; Datasheet: https://www.littelfuse.com/media?resourcetype=datasheets&itemid=75e32973-b177-4ee3-a0ff-cedaf1abdb93&filename=smaj-datasheet; Description_: 400W bidirectional Transient Voltage Suppressor, 70.0Vr, SMA(DO-214AC)
pins: 1 A1, 2 A2

## SMAJ75A
designator *  value SMAJ75A  Reference: D
400W unidirectional Transient Voltage Suppressor, 75.0Vr, SMA(DO-214AC); ki_keywords: unidirectional diode TVS voltage suppressor; ki_fp_filters: D*SMA*; Footprint: Diode_SMD:D_SMA; Datasheet: https://www.littelfuse.com/media?resourcetype=datasheets&itemid=75e32973-b177-4ee3-a0ff-cedaf1abdb93&filename=smaj-datasheet; Description_: 400W unidirectional Transient Voltage Suppressor, 75.0Vr, SMA(DO-214AC)
pins: 1 A1, 2 A2

## SMAJ75CA
designator *  value SMAJ75CA  Reference: D
400W bidirectional Transient Voltage Suppressor, 75.0Vr, SMA(DO-214AC); ki_keywords: bidirectional diode TVS voltage suppressor; ki_fp_filters: D*SMA*; Footprint: Diode_SMD:D_SMA; Datasheet: https://www.littelfuse.com/media?resourcetype=datasheets&itemid=75e32973-b177-4ee3-a0ff-cedaf1abdb93&filename=smaj-datasheet; Description_: 400W bidirectional Transient Voltage Suppressor, 75.0Vr, SMA(DO-214AC)
pins: 1 A1, 2 A2

## SMAJ78A
designator *  value SMAJ78A  Reference: D
400W unidirectional Transient Voltage Suppressor, 78.0Vr, SMA(DO-214AC); ki_keywords: unidirectional diode TVS voltage suppressor; ki_fp_filters: D*SMA*; Footprint: Diode_SMD:D_SMA; Datasheet: https://www.littelfuse.com/media?resourcetype=datasheets&itemid=75e32973-b177-4ee3-a0ff-cedaf1abdb93&filename=smaj-datasheet; Description_: 400W unidirectional Transient Voltage Suppressor, 78.0Vr, SMA(DO-214AC)
pins: 1 A1, 2 A2

## SMAJ78CA
designator *  value SMAJ78CA  Reference: D
400W bidirectional Transient Voltage Suppressor, 78.0Vr, SMA(DO-214AC); ki_keywords: bidirectional diode TVS voltage suppressor; ki_fp_filters: D*SMA*; Footprint: Diode_SMD:D_SMA; Datasheet: https://www.littelfuse.com/media?resourcetype=datasheets&itemid=75e32973-b177-4ee3-a0ff-cedaf1abdb93&filename=smaj-datasheet; Description_: 400W bidirectional Transient Voltage Suppressor, 78.0Vr, SMA(DO-214AC)
pins: 1 A1, 2 A2

## SMAJ85A
designator *  value SMAJ85A  Reference: D
400W unidirectional Transient Voltage Suppressor, 85.0Vr, SMA(DO-214AC); ki_keywords: unidirectional diode TVS voltage suppressor; ki_fp_filters: D*SMA*; Footprint: Diode_SMD:D_SMA; Datasheet: https://www.littelfuse.com/media?resourcetype=datasheets&itemid=75e32973-b177-4ee3-a0ff-cedaf1abdb93&filename=smaj-datasheet; Description_: 400W unidirectional Transient Voltage Suppressor, 85.0Vr, SMA(DO-214AC)
pins: 1 A1, 2 A2

## SMAJ85CA
designator *  value SMAJ85CA  Reference: D
400W bidirectional Transient Voltage Suppressor, 85.0Vr, SMA(DO-214AC); ki_keywords: bidirectional diode TVS voltage suppressor; ki_fp_filters: D*SMA*; Footprint: Diode_SMD:D_SMA; Datasheet: https://www.littelfuse.com/media?resourcetype=datasheets&itemid=75e32973-b177-4ee3-a0ff-cedaf1abdb93&filename=smaj-datasheet; Description_: 400W bidirectional Transient Voltage Suppressor, 85.0Vr, SMA(DO-214AC)
pins: 1 A1, 2 A2

## SMAJ90A
designator *  value SMAJ90A  Reference: D
400W unidirectional Transient Voltage Suppressor, 90.0Vr, SMA(DO-214AC); ki_keywords: unidirectional diode TVS voltage suppressor; ki_fp_filters: D*SMA*; Footprint: Diode_SMD:D_SMA; Datasheet: https://www.littelfuse.com/media?resourcetype=datasheets&itemid=75e32973-b177-4ee3-a0ff-cedaf1abdb93&filename=smaj-datasheet; Description_: 400W unidirectional Transient Voltage Suppressor, 90.0Vr, SMA(DO-214AC)
pins: 1 A1, 2 A2

## SMAJ90CA
designator *  value SMAJ90CA  Reference: D
400W bidirectional Transient Voltage Suppressor, 90.0Vr, SMA(DO-214AC); ki_keywords: bidirectional diode TVS voltage suppressor; ki_fp_filters: D*SMA*; Footprint: Diode_SMD:D_SMA; Datasheet: https://www.littelfuse.com/media?resourcetype=datasheets&itemid=75e32973-b177-4ee3-a0ff-cedaf1abdb93&filename=smaj-datasheet; Description_: 400W bidirectional Transient Voltage Suppressor, 90.0Vr, SMA(DO-214AC)
pins: 1 A1, 2 A2

## SMAJ100A
designator *  value SMAJ100A  Reference: D
400W unidirectional Transient Voltage Suppressor, 100.0Vr, SMA(DO-214AC); ki_keywords: unidirectional diode TVS voltage suppressor; ki_fp_filters: D*SMA*; Footprint: Diode_SMD:D_SMA; Datasheet: https://www.littelfuse.com/media?resourcetype=datasheets&itemid=75e32973-b177-4ee3-a0ff-cedaf1abdb93&filename=smaj-datasheet; Description_: 400W unidirectional Transient Voltage Suppressor, 100.0Vr, SMA(DO-214AC)
pins: 1 A1, 2 A2

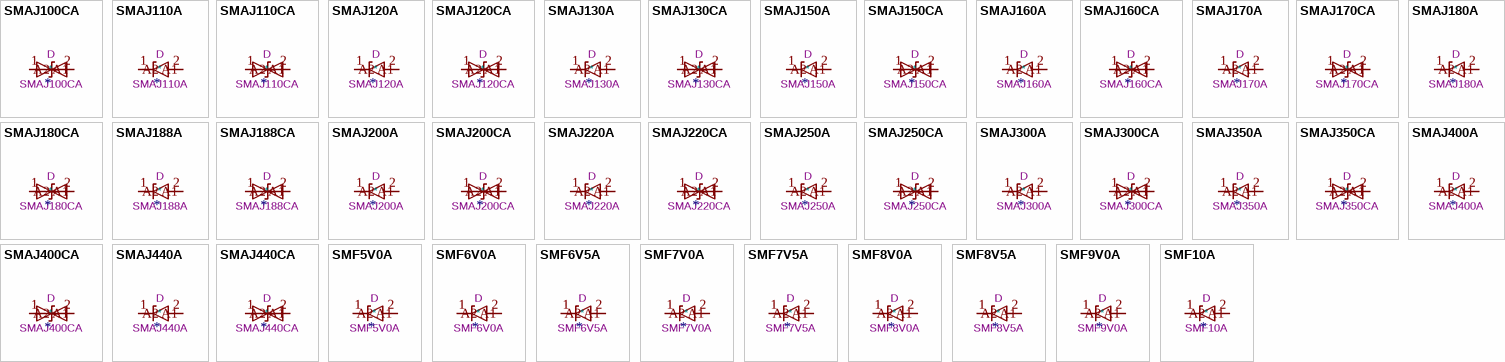
[diagram p17: symbols SMAJ100CA to SMF10A]

## SMAJ100CA
designator *  value SMAJ100CA  Reference: D
400W bidirectional Transient Voltage Suppressor, 100.0Vr, SMA(DO-214AC); ki_keywords: bidirectional diode TVS voltage suppressor; ki_fp_filters: D*SMA*; Footprint: Diode_SMD:D_SMA; Datasheet: https://www.littelfuse.com/media?resourcetype=datasheets&itemid=75e32973-b177-4ee3-a0ff-cedaf1abdb93&filename=smaj-datasheet; Description_: 400W bidirectional Transient Voltage Suppressor, 100.0Vr, SMA(DO-214AC)
pins: 1 A1, 2 A2

## SMAJ110A
designator *  value SMAJ110A  Reference: D
400W unidirectional Transient Voltage Suppressor, 110.0Vr, SMA(DO-214AC); ki_keywords: unidirectional diode TVS voltage suppressor; ki_fp_filters: D*SMA*; Footprint: Diode_SMD:D_SMA; Datasheet: https://www.littelfuse.com/media?resourcetype=datasheets&itemid=75e32973-b177-4ee3-a0ff-cedaf1abdb93&filename=smaj-datasheet; Description_: 400W unidirectional Transient Voltage Suppressor, 110.0Vr, SMA(DO-214AC)
pins: 1 A1, 2 A2

## SMAJ110CA
designator *  value SMAJ110CA  Reference: D
400W bidirectional Transient Voltage Suppressor, 110.0Vr, SMA(DO-214AC); ki_keywords: bidirectional diode TVS voltage suppressor; ki_fp_filters: D*SMA*; Footprint: Diode_SMD:D_SMA; Datasheet: https://www.littelfuse.com/media?resourcetype=datasheets&itemid=75e32973-b177-4ee3-a0ff-cedaf1abdb93&filename=smaj-datasheet; Description_: 400W bidirectional Transient Voltage Suppressor, 110.0Vr, SMA(DO-214AC)
pins: 1 A1, 2 A2

## SMAJ120A
designator *  value SMAJ120A  Reference: D
400W unidirectional Transient Voltage Suppressor, 120.0Vr, SMA(DO-214AC); ki_keywords: unidirectional diode TVS voltage suppressor; ki_fp_filters: D*SMA*; Footprint: Diode_SMD:D_SMA; Datasheet: https://www.littelfuse.com/media?resourcetype=datasheets&itemid=75e32973-b177-4ee3-a0ff-cedaf1abdb93&filename=smaj-datasheet; Description_: 400W unidirectional Transient Voltage Suppressor, 120.0Vr, SMA(DO-214AC)
pins: 1 A1, 2 A2

## SMAJ120CA
designator *  value SMAJ120CA  Reference: D
400W bidirectional Transient Voltage Suppressor, 120.0Vr, SMA(DO-214AC); ki_keywords: bidirectional diode TVS voltage suppressor; ki_fp_filters: D*SMA*; Footprint: Diode_SMD:D_SMA; Datasheet: https://www.littelfuse.com/media?resourcetype=datasheets&itemid=75e32973-b177-4ee3-a0ff-cedaf1abdb93&filename=smaj-datasheet; Description_: 400W bidirectional Transient Voltage Suppressor, 120.0Vr, SMA(DO-214AC)
pins: 1 A1, 2 A2

## SMAJ130A
designator *  value SMAJ130A  Reference: D
400W unidirectional Transient Voltage Suppressor, 130.0Vr, SMA(DO-214AC); ki_keywords: unidirectional diode TVS voltage suppressor; ki_fp_filters: D*SMA*; Footprint: Diode_SMD:D_SMA; Datasheet: https://www.littelfuse.com/media?resourcetype=datasheets&itemid=75e32973-b177-4ee3-a0ff-cedaf1abdb93&filename=smaj-datasheet; Description_: 400W unidirectional Transient Voltage Suppressor, 130.0Vr, SMA(DO-214AC)
pins: 1 A1, 2 A2

## SMAJ130CA
designator *  value SMAJ130CA  Reference: D
400W bidirectional Transient Voltage Suppressor, 130.0Vr, SMA(DO-214AC); ki_keywords: bidirectional diode TVS voltage suppressor; ki_fp_filters: D*SMA*; Footprint: Diode_SMD:D_SMA; Datasheet: https://www.littelfuse.com/media?resourcetype=datasheets&itemid=75e32973-b177-4ee3-a0ff-cedaf1abdb93&filename=smaj-datasheet; Description_: 400W bidirectional Transient Voltage Suppressor, 130.0Vr, SMA(DO-214AC)
pins: 1 A1, 2 A2

## SMAJ150A
designator *  value SMAJ150A  Reference: D
400W unidirectional Transient Voltage Suppressor, 150.0Vr, SMA(DO-214AC); ki_keywords: unidirectional diode TVS voltage suppressor; ki_fp_filters: D*SMA*; Footprint: Diode_SMD:D_SMA; Datasheet: https://www.littelfuse.com/media?resourcetype=datasheets&itemid=75e32973-b177-4ee3-a0ff-cedaf1abdb93&filename=smaj-datasheet; Description_: 400W unidirectional Transient Voltage Suppressor, 150.0Vr, SMA(DO-214AC)
pins: 1 A1, 2 A2

## SMAJ150CA
designator *  value SMAJ150CA  Reference: D
400W bidirectional Transient Voltage Suppressor, 150.0Vr, SMA(DO-214AC); ki_keywords: bidirectional diode TVS voltage suppressor; ki_fp_filters: D*SMA*; Footprint: Diode_SMD:D_SMA; Datasheet: https://www.littelfuse.com/media?resourcetype=datasheets&itemid=75e32973-b177-4ee3-a0ff-cedaf1abdb93&filename=smaj-datasheet; Description_: 400W bidirectional Transient Voltage Suppressor, 150.0Vr, SMA(DO-214AC)
pins: 1 A1, 2 A2

## SMAJ160A
designator *  value SMAJ160A  Reference: D
400W unidirectional Transient Voltage Suppressor, 160.0Vr, SMA(DO-214AC); ki_keywords: unidirectional diode TVS voltage suppressor; ki_fp_filters: D*SMA*; Footprint: Diode_SMD:D_SMA; Datasheet: https://www.littelfuse.com/media?resourcetype=datasheets&itemid=75e32973-b177-4ee3-a0ff-cedaf1abdb93&filename=smaj-datasheet; Description_: 400W unidirectional Transient Voltage Suppressor, 160.0Vr, SMA(DO-214AC)
pins: 1 A1, 2 A2

## SMAJ160CA
designator *  value SMAJ160CA  Reference: D
400W bidirectional Transient Voltage Suppressor, 160.0Vr, SMA(DO-214AC); ki_keywords: bidirectional diode TVS voltage suppressor; ki_fp_filters: D*SMA*; Footprint: Diode_SMD:D_SMA; Datasheet: https://www.littelfuse.com/media?resourcetype=datasheets&itemid=75e32973-b177-4ee3-a0ff-cedaf1abdb93&filename=smaj-datasheet; Description_: 400W bidirectional Transient Voltage Suppressor, 160.0Vr, SMA(DO-214AC)
pins: 1 A1, 2 A2

## SMAJ170A
designator *  value SMAJ170A  Reference: D
400W unidirectional Transient Voltage Suppressor, 170.0Vr, SMA(DO-214AC); ki_keywords: unidirectional diode TVS voltage suppressor; ki_fp_filters: D*SMA*; Footprint: Diode_SMD:D_SMA; Datasheet: https://www.littelfuse.com/media?resourcetype=datasheets&itemid=75e32973-b177-4ee3-a0ff-cedaf1abdb93&filename=smaj-datasheet; Description_: 400W unidirectional Transient Voltage Suppressor, 170.0Vr, SMA(DO-214AC)
pins: 1 A1, 2 A2

## SMAJ170CA
designator *  value SMAJ170CA  Reference: D
400W bidirectional Transient Voltage Suppressor, 170.0Vr, SMA(DO-214AC); ki_keywords: bidirectional diode TVS voltage suppressor; ki_fp_filters: D*SMA*; Footprint: Diode_SMD:D_SMA; Datasheet: https://www.littelfuse.com/media?resourcetype=datasheets&itemid=75e32973-b177-4ee3-a0ff-cedaf1abdb93&filename=smaj-datasheet; Description_: 400W bidirectional Transient Voltage Suppressor, 170.0Vr, SMA(DO-214AC)
pins: 1 A1, 2 A2

## SMAJ180A
designator *  value SMAJ180A  Reference: D
400W unidirectional Transient Voltage Suppressor, 180.0Vr, SMA(DO-214AC); ki_keywords: unidirectional diode TVS voltage suppressor; ki_fp_filters: D*SMA*; Footprint: Diode_SMD:D_SMA; Datasheet: https://www.littelfuse.com/media?resourcetype=datasheets&itemid=75e32973-b177-4ee3-a0ff-cedaf1abdb93&filename=smaj-datasheet; Description_: 400W unidirectional Transient Voltage Suppressor, 180.0Vr, SMA(DO-214AC)
pins: 1 A1, 2 A2

## SMAJ180CA
designator *  value SMAJ180CA  Reference: D
400W bidirectional Transient Voltage Suppressor, 180.0Vr, SMA(DO-214AC); ki_keywords: bidirectional diode TVS voltage suppressor; ki_fp_filters: D*SMA*; Footprint: Diode_SMD:D_SMA; Datasheet: https://www.littelfuse.com/media?resourcetype=datasheets&itemid=75e32973-b177-4ee3-a0ff-cedaf1abdb93&filename=smaj-datasheet; Description_: 400W bidirectional Transient Voltage Suppressor, 180.0Vr, SMA(DO-214AC)
pins: 1 A1, 2 A2

## SMAJ188A
designator *  value SMAJ188A  Reference: D
400W unidirectional Transient Voltage Suppressor, 188.0Vr, SMA(DO-214AC); ki_keywords: unidirectional diode TVS voltage suppressor; ki_fp_filters: D*SMA*; Footprint: Diode_SMD:D_SMA; Datasheet: https://www.littelfuse.com/media?resourcetype=datasheets&itemid=75e32973-b177-4ee3-a0ff-cedaf1abdb93&filename=smaj-datasheet; Description_: 400W unidirectional Transient Voltage Suppressor, 188.0Vr, SMA(DO-214AC)
pins: 1 A1, 2 A2

## SMAJ188CA
designator *  value SMAJ188CA  Reference: D
400W bidirectional Transient Voltage Suppressor, 188.0Vr, SMA(DO-214AC); ki_keywords: bidirectional diode TVS voltage suppressor; ki_fp_filters: D*SMA*; Footprint: Diode_SMD:D_SMA; Datasheet: https://www.littelfuse.com/media?resourcetype=datasheets&itemid=75e32973-b177-4ee3-a0ff-cedaf1abdb93&filename=smaj-datasheet; Description_: 400W bidirectional Transient Voltage Suppressor, 188.0Vr, SMA(DO-214AC)
pins: 1 A1, 2 A2

## SMAJ200A
designator *  value SMAJ200A  Reference: D
400W unidirectional Transient Voltage Suppressor, 200.0Vr, SMA(DO-214AC); ki_keywords: unidirectional diode TVS voltage suppressor; ki_fp_filters: D*SMA*; Footprint: Diode_SMD:D_SMA; Datasheet: https://www.littelfuse.com/media?resourcetype=datasheets&itemid=75e32973-b177-4ee3-a0ff-cedaf1abdb93&filename=smaj-datasheet; Description_: 400W unidirectional Transient Voltage Suppressor, 200.0Vr, SMA(DO-214AC)
pins: 1 A1, 2 A2